# Altium footprint library Fei-Fei_Power_Distro_V0.4.PcbLib: 31 footprints (part 1 of 2)
Each footprint in its own frame and in the unit in brackets; x right, y up, seen from the top. Pads: shape width x height; smd on the part's side, far side on the other; paste and mask are expansions set on the pad; w line width, h text height; cw(c..) or ccw(c..) is an arc to the next point about the centre after c.
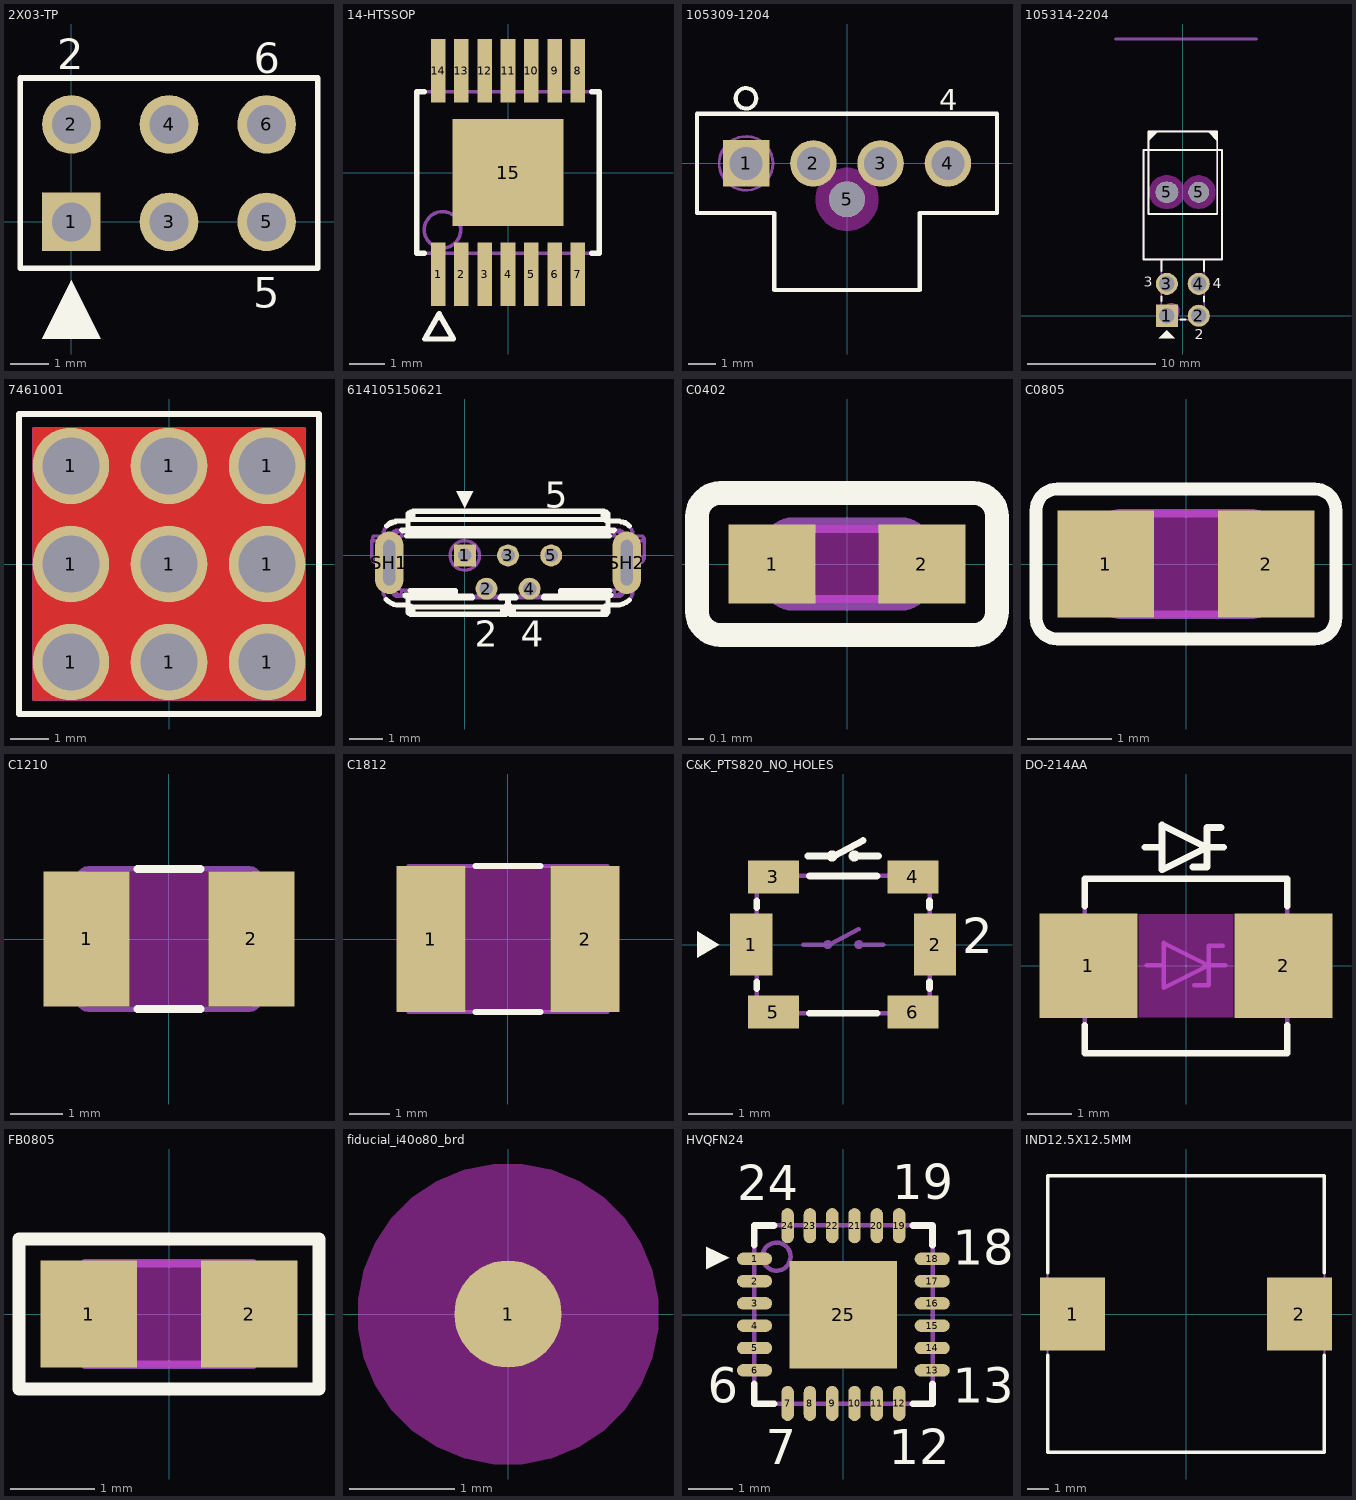
[diagram p0: the footprints below, top view; thin cyan lines are the x and y axes]

## 2X03-TP [mil] "67996-106HLF [Amphenol ICC (FCI)]; COLLECTED BY DN_QN - 22NOV21, checked by DN_AV-24NOV21"
height 343
pads (6):
  rect 60x60 / inner round 60 / far side rect 60x60 hole 40 mask+2.5: 1(0,0)
  round 60 hole 40 mask+2.5: 2(0,100) 3(100,0) 4(100,100) 5(200,0) 6(200,100)
Top Overlay:
  region: 0,-60 -30,-120 30,-120
  lines w6: -52.5,-47.5 -52.5,147.5 252.5,147.5 252.5,-47.5 -52.5,-47.5
  text "5" at 186.28,-87.84 h31
  text "6" at 186.97,152.5 h31
  text "2" at -14.8,156.6 h31
Bottom Overlay:
  text "5" at 209.14,-86.46 h31
  text "6" at 206,152 h31
  text "1" at 10,-90 h31
  text "2" at 5.2,156.6 h31
Mechanical 11:
  circle w4: c0,0 r26.93
  lines w4: -52.5,-47.5 -52.5,147.5 252.5,147.5 252.5,-47.5 -52.5,-47.5
  text ".Designator" at 0,0 h31

## 14-HTSSOP [mil] "LM5010AQ1MH/NOPB; MODIFIED BY DN_TN - 25NOV21"
height 43.31
pads (15):
  rect 16x70 smd mask+2.5: 1(-76.77,-111.77) 2(-51.18,-111.77) 3(-25.59,-111.77) 4(0,-111.77) 5(25.59,-111.77) 6(51.18,-111.77) 7(76.77,-111.77) 8(76.77,111.77) 9(51.18,111.77) 10(25.59,111.77) 11(0,111.77) 12(-25.59,111.77) 13(-51.18,111.77) 14(-76.77,111.77)
  rect 122x118 smd paste-130 mask+2.5: 15(0,0)
Top Overlay:
  lines w6: -92,-88.58 -100.39,-88.58 -100.39,88.58 -92,88.58 ; 92,-88.58 100.39,-88.58 100.39,88.58 92,88.58 ; -91.5,-183.04 -60.01,-183.04 -75.76,-155.48 -91.5,-183.04
Top Paste:
  rectangle: -54,6 -6,54
  rectangle: 6,6 54,54
  rectangle: 6,-54 54,-6
  rectangle: -54,-54 -6,-6
Mechanical 11:
  circle w4: c-72,-63 r20.02
  lines w4: -100.39,-88.58 -100.39,88.58 100.39,88.58 100.39,-88.58 -100.39,-88.58
  text ".Designator" at 0,0 h50
3D body "TSOP65P640X120-14N.step": height 47.24, standoff 0, extent -100.39,-125.98 100.4,125.99

## 105309-1204 [mil] "105309-1204  [Molex]; MODIFIED BY DN_QN - 23NOV21, CHECKED BY DN_AV - 24NOV21"
height 421.65
pads (5):
  rect 68x68 / inner round 68 / far side rect 68x68 hole 48 mask+2.5: 1(-147.64,0)
  round 68 hole 48 mask+2.5: 2(-49.21,0) 3(49.21,0) 4(147.64,0)
  round 52 hole 52 unplated mask+5: 5(0,-52.76)
Top Overlay:
  circle w6: c-147.64,95 r15
  lines w6: -219.29,-72.44 -106.3,-72.44 -106.3,-185.04 106.3,-185.04 106.3,-72.44 219.29,-72.44 219.29,72.44 -219.29,72.44 -219.29,-72.44
  text "4" at 134.66,77.3 h31
Keep-Out Layer:
  region: -46,-52.76 -46,-57.29 -44.23,-66.17 -40.76,-74.55 -35.73,-82.08 -29.32,-88.49 -21.79,-93.52 -13.42,-96.99 -4.53,-98.76 0,-98.76 4.53,-98.76 13.42,-96.99 21.79,-93.52 29.32,-88.49 35.73,-82.08 40.76,-74.55 44.23,-66.17 46,-57.29 46,-52.76 46,-48.23 44.23,-39.34 40.76,-30.97 35.73,-23.43 29.32,-17.03 21.79,-11.99 13.42,-8.52 4.53,-6.76 0,-6.76 -4.53,-6.76 -13.42,-8.52 -21.79,-11.99 -29.32,-17.03 -35.73,-23.43 -40.76,-30.97 -44.23,-39.34 -46,-48.23
Mechanical 11:
  circle w4: c-147.64,0 r39.37
  lines w4: -106.5,-72.44 -219.29,-72.44 -219.29,72.44 219.29,72.44 219.29,-72.44 106.3,-72.44 106.3,-185.04 -106.3,-185.04 -106.3,-72.44
  text ".Designator" at -167.64,30 h31
3D body "1053091204.stp": height 414.28, standoff -125.48, extent -215.35,-181.1 215.35,68.5

## 105314-2204 [mil] "105314-2204[Molex];MODIFIED BY DN_QN - 23NOV21;CHECKED BY DN_AV - 24NOV21"
height 359.84
pads (6):
  rect 68x68 / inner round 68 / far side rect 68x68 hole 48 mask+2.5: 1(-49.21,0)
  round 68 hole 48 mask+2.5: 2(49.21,0) 3(-49.21,98.43) 4(49.21,98.43)
  oval 68.9x62.99 hole 62.99 slot 68.9 at 0 deg unplated mask+5: 5(-49.21,381.1)
  round 63 hole 63 unplated mask+5: 5(49.21,381.1)
Top Overlay:
  region: -106.3,538.5 -106.3,568.5 -76.3,568.5
  region: 76.3,568.5 106.3,568.5 106.3,538.5
  region: -34.21,-70
  region: -74.21,-69 -49.21,-44 -24.21,-69
  lines w6: -65.75,45 -65.75,59.06 ; -65.75,137.8 -65.75,174.02 ; -7.87,-12.2 7.87,-12.2 ; 65.75,43.31 65.75,59.06 ; 65.75,137.8 65.75,174.02 ; -120.87,174.02 -120.87,511.02 120.87,511.02 120.87,174.02 -120.87,174.02 ; -106.3,314.17 -106.3,568.5 106.3,568.5 106.3,314.17 -106.3,314.17
  text "2" at 37.09,-71.7 h31
  text "4" at 93.09,84.3 h31
  text "3" at -119.91,89.3 h31
Keep-Out Layer:
  region: 49.21,329.6 44.14,329.6 34.19,331.58 24.82,335.46 16.38,341.1 9.21,348.27 3.57,356.71 -0.31,366.08 -2.29,376.03 -2.29,381.1 -2.29,386.17 -0.31,396.12 3.57,405.5 9.21,413.93 16.38,421.11 24.82,426.74 34.19,430.62 44.14,432.6 49.21,432.6 54.28,432.6 64.23,430.62 73.61,426.74 82.04,421.11 89.22,413.93 94.85,405.5 98.73,396.12 100.71,386.17 100.71,381.1 100.71,376.03 98.73,366.08 94.85,356.71 89.22,348.27 82.04,341.1 73.61,335.46 64.23,331.58 54.28,329.6
  region: -52.17,329.61 -57.24,329.61 -67.19,331.59 -76.56,335.47 -84.99,341.1 -92.16,348.28 -97.8,356.71 -101.68,366.08 -103.66,376.03 -103.66,381.1 -103.66,386.17 -101.68,396.12 -97.8,405.49 -92.16,413.93 -84.99,421.1 -76.56,426.74 -67.19,430.62 -57.24,432.6 -52.17,432.6 -46.26,432.6 -41.19,432.6 -31.24,430.62 -21.87,426.74 -13.43,421.1 -6.26,413.93 -0.62,405.5 3.26,396.12 5.24,386.17 5.24,381.1 5.24,376.03 3.26,366.08 -0.62,356.71 -6.26,348.28 -13.43,341.1 -21.87,335.47 -31.24,331.59 -41.19,329.61 -46.26,329.61
Mechanical 1:
  lines w10: -206.69,853.54 226.38,853.54
  text "PCB_EDGE MAX" at -171.21,870.16 h31
Mechanical 11:
  circle w4: c-34.21,15 r22.36
  region: 76.3,568.5 106.3,568.5 106.3,538.5
  region: -106.3,538.5 -106.3,568.5 -76.3,568.5
  lines w4: -65.75,174.02 -65.75,-12.2 65.75,-12.2 65.75,174.02 ; -120.87,174.02 120.87,174.02 120.87,511.02 -120.87,511.02 -120.87,174.02 ; -106.3,314.17 106.3,314.17 106.3,568.5 -106.3,568.5 -106.3,314.17
  text ".Designator" at -60.21,-11 h31
3D body "Molex 1053142204.step": height 360.34, standoff -125.48, extent -116.93,-14.47 116.93,562.6

## 7461001 [mil] "PN: 7461001 [Würth Elektronik]  , COLLECTED BY DN_TN - 25NOV21, CHECKED BY DN_AV - 26NOV21"
height 472.44
pads (9):
  round 78 / inner round 60 / far side round 78 hole 58.07 mask+2.5: 1(-100,-100) 1(-100,0) 1(-100,100) 1(0,-100) 1(0,0) 1(0,100) 1(100,-100) 1(100,0) 1(100,100)
Top Layer:
  region: -139.02,-139.02 -139.02,139.02 139.02,139.02 139.02,-139.02
Top Overlay:
  lines w6: -152.79,-152.79 -152.79,152.79 152.79,152.79 152.79,-152.79 -152.79,-152.79
Top Solder:
  region: -141.52,-141.52 141.52,-141.52 141.52,141.52 -141.52,141.52
  lines w1: -141.52,-141.52 -141.52,141.52 141.52,141.52 141.52,-141.52 -141.52,-141.52
Mechanical 11:
  lines w4: -137.79,-137.79 137.79,-137.79 137.79,137.79 -137.79,137.79 -137.79,-137.79
  text ".Designator" at 0,0 h31
3D body "7461001 (rev1).stp": height 472.44, standoff -137.8, extent -137.8,-137.79 137.8,137.8

## 614105150621 [mil] "614105150621; COLLECTED BY DN_QN - 22NOV21; CHECKED BY DN_TN - 25NOV21, CHECKED BY DN_AV - 25NOV21"
height 228.74
pads (7):
  rect 26x26 / inner round 26 / far side rect 26x26 hole 16 mask+2.5: 1(0,0)
  round 26 hole 16 mask+2.5: 2(25.59,-39.37) 3(51.18,0) 4(76.77,-39.37) 5(102.36,0)
  oval 34x74 hole 14 slot 54 at 90 deg mask+2.5: SH1(-89.57,-8.66) SH2(191.93,-8.66)
Top Overlay:
  drawing of 186 lines, arcs and shapes, not listed
  text "5" at 94.91,56.67 h31
  text "2" at 12,-108 h31
  text "4" at 66,-108 h31
Mechanical 11:
  drawing of 475 lines, arcs and shapes, not listed
  text ".Designator" at -53.54,-27.17 h31
3D body "614105150621_Download_STP_614105150621_rev1.stp": height 41.34, standoff -238.46, extent -107.48,-62.09 207.49,52.08

## C0402 [mil] "MODIFIED BY DN_TN - 12JUL21, CHECKED BY DN_AV - 19JUL21;ADDED 3D BY DN_QN - 24JUL21. CHECKED BY DN_AV - 25NOV21"
height 24
pads (2):
  rect 22x20 smd mask+2.5: 1(-19,0) 2(19,0)
Top Layer keep-out:
  rectangle: -8,-9.84 8,9.84
Top Overlay:
  lines w6: -38,-12 ccw(c-32,-12) -32,-18 32,-18 ccw(c32,-12) 38,-12 38,12 ccw(c32,12) 32,18 -32,18 ccw(c-32,12) -38,12 -38,-12
Mechanical 11:
  lines w4: -19.69,-3.84 ccw(c-13.69,-3.84) -13.69,-9.84 13.69,-9.84 ccw(c13.69,-3.84) 19.69,-3.84 19.68,3.84 ccw(c13.69,3.84) 13.69,9.84 -13.69,9.84 ccw(c-13.69,3.84) -19.69,3.84 -19.68,-3.84
  text ".Designator" at 25,-10 h31
3D body "R0402.STEP": height 15.75, standoff 0, extent -19.68,-9.84 19.69,9.84

## C0805 [mil] "FP FROM ACRONICS LIB,CHECKED BY DN_MN-07OCT17"
height 57.09
pads (2):
  rect 45x50 smd mask+2.5: 1(-37.5,0) 2(37.5,0)
Top Layer keep-out:
  rectangle: -15,-25 15,25
Top Overlay:
  lines w6: -70,-25 ccw(c-60,-25) -60,-35 60,-35 ccw(c60,-25) 70,-25 70,25 ccw(c60,25) 60,35 -60,35 ccw(c-60,25) -70,25 -70,-25
Mechanical 11:
  lines w4: -39.37,-15.62 ccw(c-31.37,-15.62) -31.37,-23.62 31.37,-23.62 ccw(c31.37,-15.62) 39.37,-15.62 39.37,15.62 ccw(c31.37,15.62) 31.37,23.62 -31.37,23.62 ccw(c-31.37,15.62) -39.37,15.62 -39.37,-15.62
  text ".Designator" at 0,0 h31
3D body "CAP_0805.STEP": height 31.29, standoff 0.5, extent -39.37,-24.6 39.37,24.61

## C1210 [mil] "CHECKED BY DN_QN - 17JAN20, CHECKED BY DN_AV - 23NOV21"
height 110.24
pads (2):
  rect 65x102.36 smd mask+2.5: 1(-62.5,0) 2(62.5,0)
Top Layer keep-out:
  rectangle: -30,-51 30,51
Top Overlay:
  lines w6: -24,-53.15 24,-53.15 ; -24,53.15 24,53.15
Mechanical 11:
  lines w4: -68.9,-45.15 ccw(c-60.9,-45.15) -60.9,-53.15 60.9,-53.15 ccw(c60.9,-45.15) 68.9,-45.15 68.9,45.15 ccw(c60.9,45.15) 60.9,53.15 -60.9,53.15 ccw(c-60.9,45.15) -68.9,45.15 -68.9,-45.15
  text ".Designator" at 26,5 h40
3D body "1210.stp": height 110.73, standoff 0.5, extent -72.83,-57.09 72.83,57.09

## C1812 [mm] "FP FROM ACRONICS LIB; CHECKED BY DN_TN - 26NOV21"
height 2.5
pads (2):
  rect 1.7x3.6 smd: 1(-1.9,0) 2(1.9,0)
Top Layer keep-out:
  rectangle: -1.041,-1.803 1.041,1.803
Top Overlay:
  lines w0.152: -0.8,-1.8 0.8,-1.8 ; -0.8,1.8 0.8,1.8
Mechanical 11:
  lines w0.102: -2.45,-1.8 2.45,-1.8 2.45,1.8 -2.45,1.8 -2.45,-1.8
  text ".Designator" at -1.219,-0.152 h0.76

## C&K_PTS820_NO_HOLES [mm] "PTS820 J25K SMTR LFS [C&K]; COLLECTED BY DN_TN - 22NOV21;CHECKED BY DN_QN - 24NOV21"
height 2.5
pads (6):
  rect 0.95x1.4 smd paste+0 mask+0.064: 1(-2.075,0) 2(2.075,0)
  rect 1.15x0.75 smd paste+0 mask+0.064: 3(-1.575,1.525) 4(1.575,1.525) 5(-1.575,-1.525) 6(1.575,-1.525)
Top Overlay:
  circle w0.152: c-0.25,2 r0.05
  circle w0.152: c0.25,2 r0.05
  region: -3.3,0.3 -3.3,-0.3 -2.8,0
  lines w0.152: -1.95,-0.991 -1.95,-0.838 ; -1.95,0.838 -1.95,0.991 ; -0.8,2 -0.3,2 ; -0.762,-1.55 0.762,-1.55 ; -0.762,1.55 0.762,1.55 ; -0.2,2 0.45,2.35 ; 0.3,2 0.8,2 ; 1.95,-0.991 1.95,-0.838 ; 1.95,0.838 1.95,0.991
  text "2" at 2.685,-0.2 h0.79
Mechanical 11:
  circle w0.102: c-0.35,0 r0.05
  circle w0.102: c0.35,0 r0.05
  lines w0.102: -0.9,0 -0.4,0 ; -0.3,0 0.35,0.35 ; 0.4,0 0.9,0 ; -1.95,-1.55 -1.95,1.55 1.95,1.55 1.95,-1.55 -1.95,-1.55
  text ".Designator" at -1.466,0.448 h0.79

## DO-214AA [mil] "SMBJ54A-13-F  ; COLLECTED BY DN_TN - 22NOV21; CHECKED BY DN_QN - 24NOV21"
height 98.43
pads (2):
  rect 87x93 smd paste+0 mask+2.5: 1(-86.81,0) 2(86.81,0)
Top Layer keep-out:
  rectangle: -42,-46 42,46
Top Overlay:
  lines w6: -89.96,-53 -89.96,-77.56 89.96,-77.56 89.96,-53 ; -89.96,53 -89.96,77.56 89.96,77.56 89.96,53 ; -36.43,105.41 -21.43,105.41 ; 6.07,87.91 18.57,87.91 18.57,122.91 31.07,122.91 ; 33.57,105.41 18.57,105.41 ; 18.57,105.41 -21.43,125.41 -21.43,85.41 18.57,105.41
Mechanical 11:
  lines w4: -34.96,0.54 -19.96,0.54 ; 7.54,-16.96 20.04,-16.96 20.04,18.04 32.54,18.04 ; 35.04,0.54 20.04,0.54 ; 20.04,0.54 -19.96,20.54 -19.96,-19.46 20.04,0.54 ; -89.96,-77.56 89.96,-77.56 89.96,77.56 -89.96,77.56 -89.96,-77.56
  text ".Designator" at 0,0 h31

## FB0805 [mil] "FP FROM ACRONICS LIB. CHECKED BY DN_AV - 23NOV21 (HEIGHT)"
height 41.34
pads (2):
  rect 45x50 smd mask+2.5: 1(-37.5,0) 2(37.5,0)
Top Layer keep-out:
  rectangle: -15,-25 15,25
Top Overlay:
  lines w6: -70,-35 70,-35 70,35 -70,35 -70,-35
Mechanical 11:
  lines w4: -39.37,-23.62 39.37,-23.62 39.37,23.62 -39.37,23.62 -39.37,-23.62
  text ".Designator" at -10,-15 h31
3D body "CAP_0805.STEP": height 31.29, standoff 0.5, extent -39.37,-24.6 39.37,24.61

## fiducial_i40o80_brd [mil] "COLLECTED BY DN_TN - 26NOV21"
pads (1):
  round 40 smd paste+0 mask+20: 1(0,0)
Top Layer keep-out:
  region: 0,-56 -5.52,-56 -16.33,-53.85 -26.53,-49.63 -35.7,-43.5 -43.5,-35.7 -49.63,-26.53 -53.85,-16.33 -56,-5.52 -56,0 -56,5.52 -53.85,16.33 -49.63,26.53 -43.5,35.7 -35.7,43.5 -26.53,49.63 -16.33,53.85 -5.52,56 0,56 5.52,56 16.33,53.85 26.53,49.63 35.7,43.5 43.5,35.7 49.63,26.53 53.85,16.33 56,5.52 56,0 56,-5.52 53.85,-16.33 49.63,-26.53 43.5,-35.7 35.7,-43.5 26.53,-49.63 16.33,-53.85 5.52,-56

## HVQFN24 [mil] "ATSAMD11D14A-MUT ; COLLECTED BY DN_TN - 22NOV21;CHECKED BY DN_QN - 24NOV21"
height 35.43
pads (25):
  oval 31x11 smd paste+0 mask+2.5: 1(-78.49,49.21) 2(-78.49,29.53) 3(-78.49,9.84) 4(-78.49,-9.84) 5(-78.49,-29.53) 6(-78.49,-49.21) 13(78.49,-49.21) 14(78.49,-29.53) 15(78.49,-9.84) 16(78.49,9.84) 17(78.49,29.53) 18(78.49,49.21)
  oval 11x31 smd paste+0 mask+2.5: 7(-49.21,-78.49) 8(-29.53,-78.49) 9(-9.84,-78.49) 10(9.84,-78.49) 11(29.53,-78.49) 12(49.21,-78.49) 19(49.21,78.49) 20(29.53,78.49) 21(9.84,78.49) 22(-9.84,78.49) 23(-29.53,78.49) 24(-49.21,78.49)
  rect 95x95 smd paste-98.43 mask+2.5: 25(0,0)
Top Overlay:
  region: -101,50 -121,60 -121,40
  lines w6: -78.74,-61.21 -78.74,-78.74 -61.21,-78.74 ; -78.74,61.21 -78.74,78.74 -61.21,78.74 ; 61.21,-78.74 78.74,-78.74 78.74,-61.21 ; 61.21,78.74 78.74,78.74 78.74,61.21
  text "13" at 96.4,-78 h31
  text "12" at 40.2,-132 h31
  text "7" at -68.4,-132 h31
  text "6" at -119.8,-78 h31
  text "24" at -93.8,101 h31
  text "18" at 96.4,44 h31
  text "19" at 43.2,102 h31
Top Paste:
  region: -35.5,-36.02 -35.6,-36.02 -35.79,-35.94 -35.94,-35.79 -36.02,-35.6 -36.02,-35.5 -36.02,-6 -36.02,-5.9 -35.94,-5.71 -35.79,-5.56 -35.6,-5.49 -35.5,-5.49 -6,-5.49 -5.9,-5.49 -5.71,-5.56 -5.56,-5.71 -5.49,-5.9 -5.49,-6 -5.49,-35.5 -5.49,-35.6 -5.56,-35.79 -5.71,-35.94 -5.9,-36.02 -6,-36.02
  region: 5.49,-35.5 5.49,-35.6 5.56,-35.79 5.71,-35.94 5.9,-36.02 6,-36.02 35.5,-36.02 35.6,-36.02 35.79,-35.94 35.94,-35.79 36.02,-35.6 36.02,-35.5 36.02,-6 36.02,-5.9 35.94,-5.71 35.79,-5.56 35.6,-5.49 35.5,-5.49 6,-5.49 5.9,-5.49 5.71,-5.56 5.56,-5.71 5.49,-5.9 5.49,-6
  region: 6,5.49 5.9,5.49 5.71,5.56 5.56,5.71 5.49,5.9 5.49,6 5.49,35.5 5.49,35.6 5.56,35.79 5.71,35.94 5.9,36.02 6,36.02 35.5,36.02 35.6,36.02 35.79,35.94 35.94,35.79 36.02,35.6 36.02,35.5 36.02,6 36.02,5.9 35.94,5.71 35.79,5.56 35.6,5.49 35.5,5.49
  region: -35.5,5.49 -35.6,5.49 -35.79,5.56 -35.94,5.71 -36.02,5.9 -36.02,6 -36.02,35.5 -36.02,35.6 -35.94,35.79 -35.79,35.94 -35.6,36.02 -35.5,36.02 -6,36.02 -5.9,36.02 -5.71,35.94 -5.56,35.79 -5.49,35.6 -5.49,35.5 -5.49,6 -5.49,5.9 -5.56,5.71 -5.71,5.56 -5.9,5.49 -6,5.49
  lines w1: -35.5,-35.5 -6,-35.5 -6,-6 -35.5,-6 -35.5,-35.5 ; -35.5,6 -6,6 -6,35.5 -35.5,35.5 -35.5,6 ; 6,-35.5 35.5,-35.5 35.5,-6 6,-6 6,-35.5 ; 6,6 35.5,6 35.5,35.5 6,35.5 6,6
Mechanical 11:
  circle w4: c-59.05,51.18 r12.45
  lines w4: -78.74,-78.74 78.74,-78.74 78.74,78.74 -78.74,78.74 -78.74,-78.74
  text ".Designator" at -110,-40 h31

## IND12.5X12.5MM [mil] "SLF12575T-101M1R9-H  , COLLECTED BY DN_TN - 25NOV21, CHECKED BY DN_AV - 26NOV21"
height 309.06
pads (2):
  rect 118x133 smd mask+2.5: 1(-206.64,0) 2(206.64,0)
Top Overlay:
  lines w6: -251.97,-75 -251.97,-251.97 251.97,-251.97 251.97,-75 ; -251.97,75 -251.97,251.97 251.97,251.97 251.97,75
Mechanical 11:
  lines w4: -251.97,-251.97 -251.97,251.97 251.97,251.97 251.97,-251.97 -251.97,-251.97
  text ".Designator" at -115,-120 h31
3D body "slf12575.step": height 287.4, standoff -7.87, extent -249.06,-246.03 247,250.03